# Altium schematic symbol library c8t6加电机驱动.SchLib: 34 symbols
Pins are listed as number, name and electrical type; pins without a type are passive.

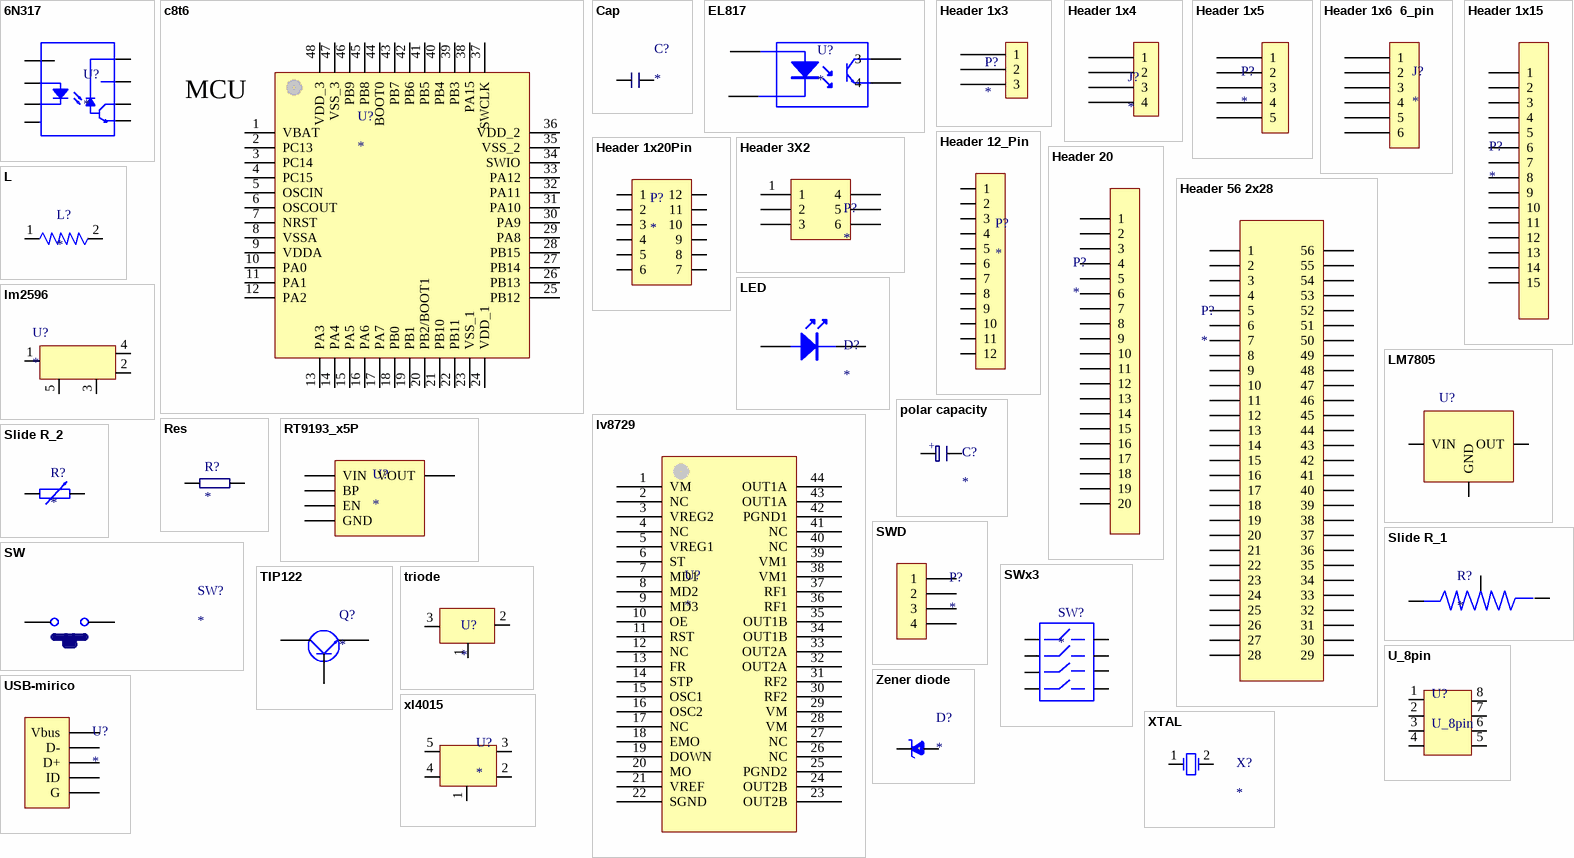
[diagram p0: symbols 6N317 to Zener diode]

## 6N317
designator U?
pins: 1 NC, 2 PUL+, 3 PUL-, 4 NC, 5 GND, 6 VO, 7 EN, 8 VCC

## c8t6
designator U?
footprint 48P
pins: 1 VBAT, 2 PC13, 3 PC14, 4 PC15, 5 OSCIN, 6 OSCOUT, 7 NRST, 8 VSSA, 9 VDDA, 10 PA0, 11 PA1, 12 PA2, 13 PA3, 14 PA4, 15 PA5, 16 PA6, 17 PA7, 18 PB0, 19 PB1, 20 PB2/BOOT1, 21 PB10, 22 PB11, 23 VSS_1, 24 VDD_1, 25 PB12, 26 PB13, 27 PB14, 28 PB15, 29 PA8, 30 PA9, 31 PA10, 32 PA11, 33 PA12, 34 SWIO, 35 VSS_2, 36 VDD_2, 37 SWCLK, 38 PA15, 39 PB3, 40 PB4, 41 PB5, 42 PB6, 43 PB7, 44 BOOT0, 45 PB8, 46 PB9, 47 VSS_3, 48 VDD_3
text: MCU

## Cap
designator C?
electric capacity
pins: 1, 2

## EL817
designator U?
光耦
pins: 1, 2, 3, 4

## Header 1x3
designator P?
pins: 1, 2, 3

## Header 1x4
designator J?
pins: 1, 2, 3, 4

## Header 1x5
designator P?
pins: 1, 2, 3, 4, 5

## Header 1x6  6_pin
designator J?
pins: 1, 2, 3, 4, 5, 6

## Header 1x15
designator P?
pins: 1, 2, 3, 4, 5, 6, 7, 8, 9, 10, 11, 12, 13, 14, 15

## Header 1x20Pin
designator P?
pins: 1, 2, 3, 4, 5, 6, 7, 8, 9, 10, 11, 12

## Header 3X2
designator P?
3x2_Pin
pins: 1, 2, 3, 4, 5, 6

## Header 12_Pin
designator P?
pins: 1, 2, 3, 4, 5, 6, 7, 8, 9, 10, 11, 12

## Header 20
designator P?
20_Pin
pins: 1, 2, 3, 4, 5, 6, 7, 8, 9, 10, 11, 12, 13, 14, 15, 16, 17, 18, 19, 20

## Header 56 2x28
designator P?
pins: 1, 2, 3, 4, 5, 6, 7, 8, 9, 10, 11, 12, 13, 14, 15, 16, 17, 18, 19, 20, 21, 22, 23, 24, 25, 26, 27, 28, 29, 30, 31, 32, 33, 34, 35, 36, 37, 38, 39, 40, 41, 42, 43, 44, 45, 46, 47, 48, 49, 50, 51, 52, 53, 54, 55, 56

## L
designator L?
pins: 1, 2

## LED
designator D?
pins: 1, 2

## lm2596
designator U?
pins: 1 Vin, 2 Vout, 3 Gnd, 4 Vfb, 5 Vof/on

## LM7805
designator U?
pins: 1 VIN, 2 GND, 3 OUT

## lv8729
designator U?
pins: 1 VM, 2 NC, 3 VREG2, 4 NC, 5 VREG1, 6 ST, 7 MD1, 8 MD2, 9 MD3, 10 OE, 11 RST, 12 NC, 13 FR, 14 STP, 15 OSC1, 16 OSC2, 17 NC, 18 EMO, 19 DOWN, 20 MO, 21 VREF, 22 SGND, 23 OUT2B, 24 OUT2B, 25 PGND2, 26 NC, 27 NC, 28 VM, 29 VM, 30 RF2, 31 RF2, 32 OUT2A, 33 OUT2A, 34 OUT1B, 35 OUT1B, 36 RF1, 37 RF1, 38 VM1, 39 VM1, 40 NC, 41 NC, 42 PGND1, 43 OUT1A, 44 OUT1A

## polar capacity
designator C?
pins: 1, 2
text: +

## Res
designator R?
pins: 1, 2

## RT9193_x5P
designator U?
pins: 1 VIN, 2 GND, 3 EN, 4 BP, 5 VOUT

## Slide R_1
designator R?
pins: 1, 2, 3

## Slide R_2
designator R?
pins: 1, 2

## SW
designator SW?
switch
pins: 6, 7

## SWD
designator P?
4_Pin
pins: 1, 2, 3, 4

## SWx3
designator SW?
pins: 1, 2, 3, 4, 5, 6, 7, 8

## TIP122
designator Q?
pins: 1 Collection, 2 Base, 3 Emitter

## triode
designator U?
pins: 1, 2, 3

## U_8pin
designator U?
pins: 1, 2, 3, 4, 5, 6, 7, 8

## USB-mirico
designator U?
USB
pins: D+, D-, G, ID, VBUS Vbus

## xl4015
designator U?
pins: 1 Gnd, 2 FB, 3 SW, 4 Vc, 5 Vin

## XTAL
designator X?
pins: 1, 2

## Zener diode
designator D?
pins: 1 Negative, 2 Positive